# Altium integrated library 电容.IntLib: 4 symbols
Pins are listed as number, name and electrical type; pins without a type are passive.

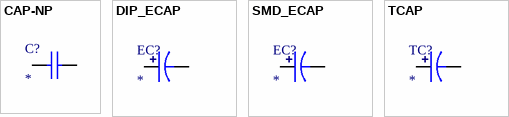
[diagram p0: symbols CAP-NP to TCAP]

## CAP-NP
designator C?
footprint 0201C
footprint 0402C
footprint 0603C
footprint 0805C
footprint 1206C
footprint 1210C
footprint 1808C
footprint 1812C
footprint 1825C
footprint 2225C
footprint RAD-0.2
footprint RAD-0.3
pins: 1, 2

## DIP_ECAP
designator EC?
footprint DIP-EC1.5X4X8
footprint DIP-EC1.5X4X8-A
footprint DIP-EC2.0X5X11
footprint DIP-EC2.0X5X11-A
footprint DIP-EC2.5X5X11
footprint DIP-EC2.5X5X11-A
footprint DIP-EC2.5X6.3X11.2-A
footprint DIP-EC2.5X6.3X11.2
footprint DIP-EC3.5X8X11.5
footprint DIP-EC3.5X8X11.5-A
footprint DIP-EC5.0X10X12.5
footprint DIP-EC5.0X10X12.5-A
footprint DIP-EC5.0X10X16
footprint DIP-EC5.0X10X16-A
footprint DIP-EC5.0X10X20
footprint DIP-EC5.0X10X20-A
footprint DIP-EC5.0X12.5X20
footprint DIP-EC5.0X12.5X20-A
footprint DIP-EC5.0X12.5X25
footprint DIP-EC5.0X12.5X25-A
footprint DIP-EC5X11
footprint DIP-EC6.3X11
footprint DIP-EC7.5X16X25
footprint DIP-EC7.5X16X25-A
footprint DIP-EC7.5X16X31.5
footprint DIP-EC7.5X16X31.5-A
footprint DIP-EC7.5X18X35.5
footprint DIP-EC7.5X18X35.5-A
footprint DIP-EC8X12
footprint DIP-EC10X17
footprint DIP-EC10X22X31.5
footprint DIP-EC10X22X40
pins: 1, 2

## SMD_ECAP
designator EC?
footprint SMD-EC3.0X3.3X5.4
footprint SMD-EC4.0X4.3X5.4
footprint SMD-EC5.0X5.3X5.4
footprint SMD-EC6.3X6.3X10
footprint SMD-EC8X8X10
footprint SMD-EC10X10X10
footprint SMD-EC-F12.5
footprint SMD-EC-F16
pins: 1, 2

## TCAP
designator TC?
footprint TAJ-A/3216
footprint TAJ-B/3528
footprint TAJ-C/6032
footprint TAJ-D/7343
pins: 1, 2